# EAGLE library part AS-ITM-00296 (library tinycircuits)
IC RF TXRX 802.15.4 UWB 48-QFN
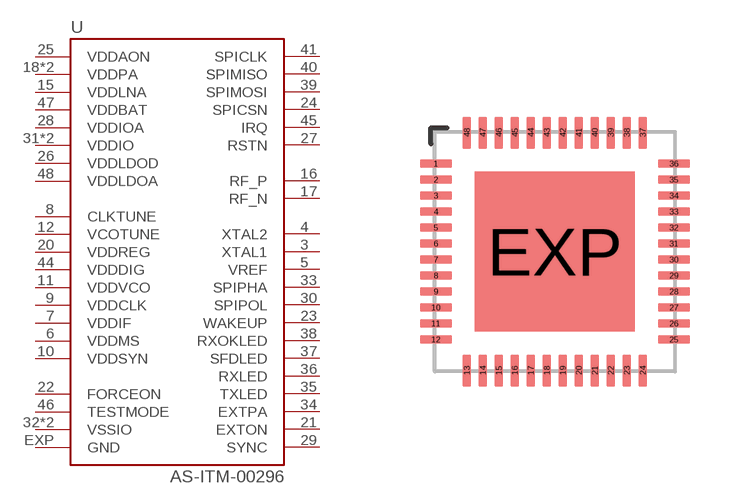
[diagram p118: symbol with the pads of QFN48_0.4; footprint QFN48_0.4]

Designator prefix U

## AS-ITM-00296 (PARTNO: AS-ITM-00296; PNPROTATION: 270; VALUE: DW1000)  [QFN48_0.4]
3  XTAL1
4  XTAL2
5  VREF
6  VDDMS
7  VDDIF
8  CLKTUNE
9  VDDCLK
10  VDDSYN
11  VDDVCO
12  VCOTUNE
15  VDDLNA
16  RF_P
17  RF_N
18  VDDPA
19  VDDPA
20  VDDREG
21  EXTON
22  FORCEON
23  WAKEUP
24  SPICSN
25  VDDAON
26  VDDLDOD
27  RSTN
28  VDDIOA
29  SYNC
30  SPIPOL
31  VDDIO
32  VSSIO
33  SPIPHA
34  EXTPA
35  TXLED
36  RXLED
37  SFDLED
38  RXOKLED
39  SPIMOSI
40  SPIMISO
41  SPICLK
42  VDDIO
43  VSSIO
44  VDDDIG
45  IRQ
46  TESTMODE
47  VDDBAT
48  VDDLDOA
EXP  GND

## Footprint QFN48_0.4 (pad centres in mm)
smd 0.8 x 0.203: 1 -2.975,2.2; 2 -2.975,1.8; 3 -2.975,1.4; 4 -2.975,1; 5 -2.975,0.6; 6 -2.975,0.2; 7 -2.975,-0.2; 8 -2.975,-0.6; 9 -2.975,-1; 10 -2.975,-1.4; 11 -2.975,-1.8; 12 -2.975,-2.2; 25 2.975,-2.2; 26 2.975,-1.8; 27 2.975,-1.4; 28 2.975,-1; 29 2.975,-0.6; 30 2.975,-0.2; 31 2.975,0.2; 32 2.975,0.6; 33 2.975,1; 34 2.975,1.4; 35 2.975,1.8; 36 2.975,2.2
smd 0.203 x 0.8: 13 -2.2,-2.975; 14 -1.8,-2.975; 15 -1.4,-2.975; 16 -1,-2.975; 17 -0.6,-2.975; 18 -0.2,-2.975; 19 0.2,-2.975; 20 0.6,-2.975; 21 1,-2.975; 22 1.4,-2.975; 23 1.8,-2.975; 24 2.2,-2.975; 37 2.2,2.975; 38 1.8,2.975; 39 1.4,2.975; 40 1,2.975; 41 0.6,2.975; 42 0.2,2.975; 43 -0.2,2.975; 44 -0.6,2.975; 45 -1,2.975; 46 -1.4,2.975; 47 -1.8,2.975; 48 -2.2,2.975
smd 4 x 4: EXP 0,0